# Altium footprint library AVX TAJC107K006RNJ.PcbLib: 1 footprints
Each footprint in its own frame and in the unit in brackets; x right, y up, seen from the top. Pads: shape width x height; smd on the part's side, far side on the other; paste and mask are expansions set on the pad; w line width, h text height; cw(c..) or ccw(c..) is an arc to the next point about the centre after c.
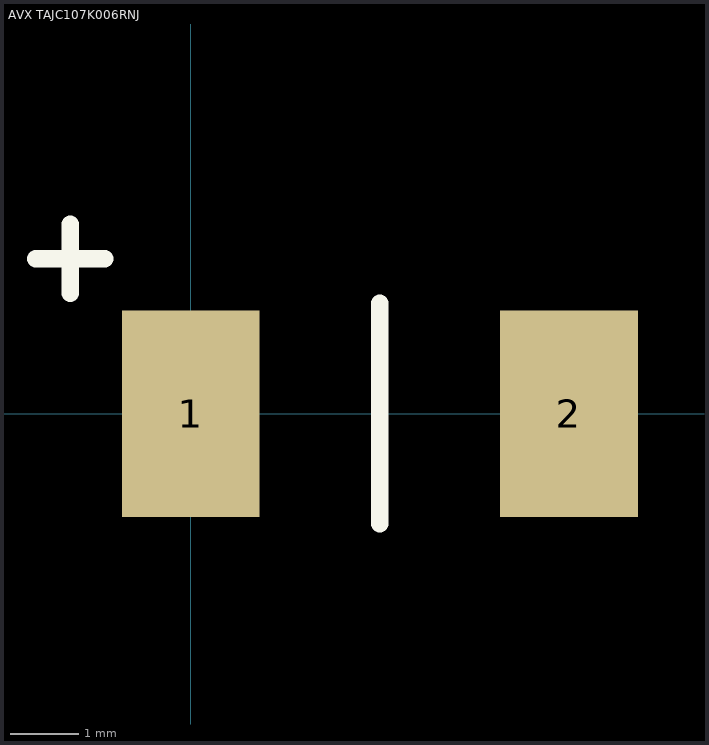
[diagram p0: the footprint, top view; thin cyan lines are the x and y axes]

## AVX TAJC107K006RNJ [mm]
height 3
pads (2):
  rect 2x3 smd: 1(0,0) 2(5.5,0)
Top Overlay:
  lines w0.254: -2.25,2.25 -1.25,2.25 ; -1.75,1.75 -1.75,2.75 ; 2.75,-1.6 2.75,1.6
3D body: height 0.9, standoff -14.8, extent 0.033,-1.5 0.033,-1.5
3D body: height 0.9, standoff -14.8, extent 0,0 0,0
3D body "6032-28 capacitor.x_t": height 2.6, standoff 0, extent -0.2,-1.6 5.7,1.6